# EAGLE library part DS1307N (library DS1307N)
Real Time Clock Serial 56Byte 8-Pin PDIP N
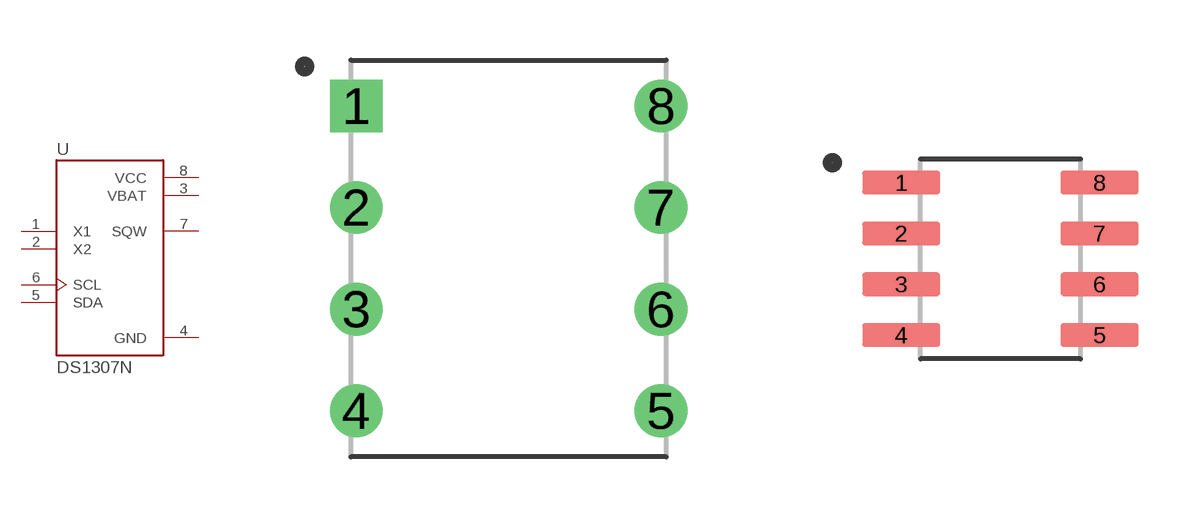
[diagram p0: symbol with the pads of DIP762W47P254L991H457Q8; footprints DIP762W47P254L991H457Q8, SOIC127P600X175-8N]

Designator prefix U

## DS1307N (Description: Real Time Clock _RTC_ IC Clock/Calendar 56B I²C, 2-Wire Serial 8-DIP _0.300, 7.62mm_; Digi-Key_Part_Number: DS1307N+-ND; Digi-Key_Purchase_URL: https://www.digikey.com/product-detail/en/maxim-integrated/DS1307N-/DS1307N--ND/1196883?utm_source=snapeda&utm_medium=aggregator&utm_campaign=symbol; MF: Maxim Integrated; MP: DS1307N+; Package: PDIP-8 Maxim)  [DIP762W47P254L991H457Q8]
1  X1  in
2  X2  out
3  VBAT  pwr
4  GND  pwr
5  SDA
6  SCL  in
7  SQW  out
8  VCC  pwr

## DS1307NSO-8 (Description: Real Time Clock _RTC_ IC Clock/Calendar 56B I²C, 2-Wire Serial 8-DIP _0.300, 7.62mm_; Digi-Key_Part_Number: DS1307N+-ND; Digi-Key_Purchase_URL: https://www.digikey.com/product-detail/en/maxim-integrated/DS1307N-/DS1307N--ND/1196883?utm_source=snapeda&utm_medium=aggregator&utm_campaign=symbol; MF: Maxim Integrated; MP: DS1307N+; Package: PDIP-8 Maxim)  [SOIC127P600X175-8N]
Pads as for DIP762W47P254L991H457Q8

## Footprint DIP762W47P254L991H457Q8 (pad centres in mm)
Small Outline Package Fits JEDEC packages (narrow SOIC-8)
drill 0.81 square: 1 -3.81,3.81
drill 0.81: 2 -3.81,1.27; 3 -3.81,-1.27; 4 -3.81,-3.81; 5 3.81,-3.81; 6 3.81,-1.27; 7 3.81,1.27; 8 3.81,3.81

## Footprint SOIC127P600X175-8N (pad centres in mm)
smd 1.95 x 0.59: 1 -2.48,1.905; 2 -2.48,0.635; 3 -2.48,-0.635; 4 -2.48,-1.905; 5 2.48,-1.905; 6 2.48,-0.635; 7 2.48,0.635; 8 2.48,1.905